# Altium schematic symbol library RAHUA20E.SchLib: 1 symbol
Pins are listed as number, name and electrical type; pins without a type are passive.

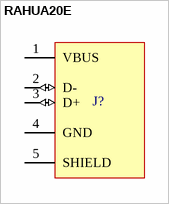
[diagram p0: symbol RAHUA20E]

## RAHUA20E
designator J?
USB Type-A 2.0 Connector, Right Angle Horizontal Surface Mount
pins: 1 VBUS (power), 2 D- (io), 3 D+ (io), 4 GND (power), 5 SHIELD